# Altium footprint library COMPONENTES.PcbLib: 191 footprints (part 7 of 12)
Each footprint in its own frame and in the unit in brackets; x right, y up, seen from the top. Pads: shape width x height; smd on the part's side, far side on the other; paste and mask are expansions set on the pad; w line width, h text height; cw(c..) or ccw(c..) is an arc to the next point about the centre after c.
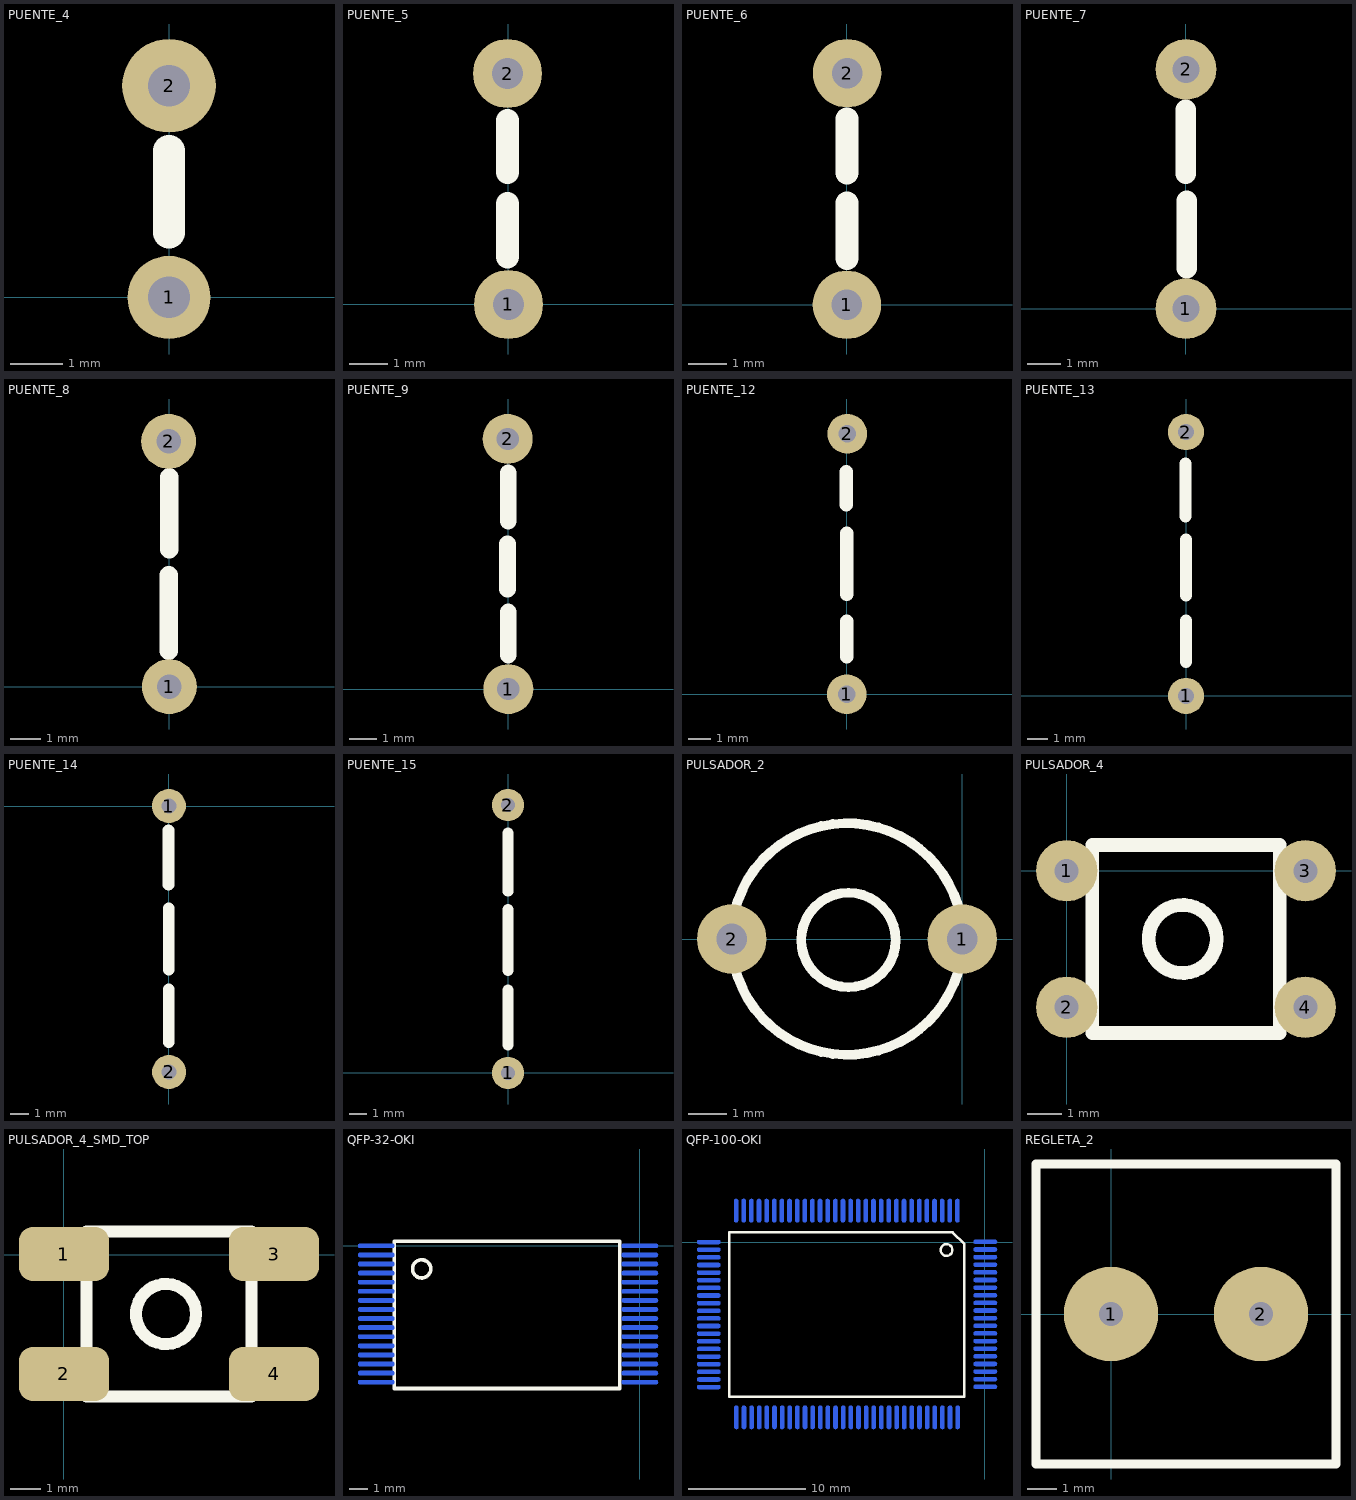
[diagram p6: the footprints below, top view; thin cyan lines are the x and y axes]

## PUENTE_4 [mm]
height 2.65
pads (2):
  round 1.6 hole 0.8: 1(0,0)
  round 1.8 hole 0.8: 2(0,4.075)
Top Overlay:
  lines w0.61: 0,1.25 0,2.825

## PUENTE_5 [mm]
height 2.65
pads (2):
  round 1.8 hole 0.8: 1(0,0) 2(-0.025,6.025)
Top Overlay:
  lines w0.61: -0.025,1.25 -0.025,2.625 ; -0.025,3.45 -0.025,4.8

## PUENTE_6 [mm]
height 2.65
pads (2):
  round 1.8 hole 0.8: 1(0,0) 2(0.004,6.093)
Top Overlay:
  lines w0.61: 0,1.225 0,2.675 ; 0,3.475 0,4.89

## PUENTE_7 [mm]
height 2.65
pads (2):
  round 1.8 hole 0.8: 1(0,0) 2(0.004,7.093)
Top Overlay:
  lines w0.61: 0,4 0,5.89 ; 0.025,1.197 0.025,3.2

## PUENTE_8 [mm]
height 2.65
pads (2):
  round 1.8 hole 0.8: 1(0,0) 2(-0.021,8.043)
Top Overlay:
  lines w0.61: -0.025,1.172 -0.025,3.65 ; 0,4.5 0,6.865

## PUENTE_9 [mm]
height 2.65
pads (2):
  round 1.8 hole 0.8: 1(0,0) 2(-0.021,9.018)
Top Overlay:
  lines w0.61: -0.025,3.6 -0.025,5.225 ; 0,1.225 0,2.775 ; 0,6.05 0,7.8

## PUENTE_12 [mm]
height 2.65
pads (2):
  round 1.8 hole 0.8: 1(0,0) 2(0.022,11.801)
Top Overlay:
  lines w0.61: -0.028,8.593 -0.028,10.092 ; -0.003,1.698 -0.003,3.298 ; -0.003,4.518 -0.003,5.901 -0.003,7.301

## PUENTE_13 [mm]
height 2.65
pads (2):
  round 1.8 hole 0.8: 1(0,0) 2(-0.003,13.126)
Top Overlay:
  lines w0.61: -0.028,8.943 -0.028,11.567 ; -0.003,1.698 -0.003,3.748 ; -0.003,4.993 -0.003,5.901 -0.003,7.776

## PUENTE_14 [mm]
height 2.65
pads (2):
  round 1.8 hole 0.8: 1(0,0) 2(0.003,-14.076)
Top Overlay:
  lines w0.61: -0.025,-4.158 -0.025,-1.285 ; 0,-12.503 0,-9.703 ; 0,-8.658 0,-8.175 0,-5.4

## PUENTE_15 [mm]
height 2.65
pads (2):
  round 1.8 hole 0.8: 1(0,0) 2(-0.003,15.026)
Top Overlay:
  lines w0.61: -0.003,1.573 -0.003,4.648 ; -0.003,5.743 -0.003,5.901 -0.003,9.176 ; -0.003,10.193 -0.003,13.467

## PULSADOR_2 [mm]
height 2.65
pads (2):
  round 1.8 hole 0.8: 1(0,0) 2(-5.975,0)
Top Overlay:
  circle w0.254: c-2.985,0 r3
  circle w0.254: c-2.95,-0.025 r1.225

## PULSADOR_4 [mm]
height 2.65
pads (4):
  round 1.8 hole 0.7: 1(0,0) 2(0,-4) 3(7,0) 4(7,-4)
Top Overlay:
  circle w0.4: c3.4,-2 r1
  lines w0.4: 0.75,-4.758 6.25,-4.758 6.25,0.758 0.75,0.758 0.75,-4.758

## PULSADOR_4_SMD_TOP [mm]
pads (4):
  rrect50% 3x1.8 smd: 1(0,0.025) 2(0,-3.975) 3(7,0.025) 4(7,-3.975)
Top Overlay:
  circle w0.4: c3.4,-1.975 r1
  lines w0.4: 0.75,-4.733 0.75,0.783 6.25,0.783 6.25,-4.733 0.75,-4.733

## QFP-32-OKI [mm]
height 2.65
pads (32):
  oval 2x0.24 smd far side: 1(0,0) 2(0,-0.5) 3(0,-1) 4(0,-1.5) 5(0,-2) 6(0,-2.5) 7(0,-3) 8(0,-3.5) 9(0,-4) 10(0,-4.5) 11(0,-5) 12(0,-5.5) 13(0,-6) 14(0,-6.5) 15(0,-7) 16(0,-7.5) 17(-14.5,-7.5) 18(-14.5,-7) 19(-14.5,-6.5) 20(-14.5,-6) 21(-14.5,-5.5) 22(-14.5,-5) 23(-14.5,-4.5) 24(-14.5,-4) 25(-14.5,-3.5) 26(-14.5,-3) 27(-14.5,-2.5) 28(-14.5,-2) 29(-14.5,-1.5) 30(-14.5,-1) 31(-14.5,-0.5) 32(-14.5,0)
Top Overlay:
  circle w0.2: c-12,-1.27 r0.5
  lines w0.2: -13.5,-7.85 -1.1,-7.85 -1.1,0.25 -13.5,0.25 -13.5,-7.85

## QFP-100-OKI [mm]
height 2.65
pads (100):
  oval 0.35x2 smd far side: 1(-2.343,2.676) 2(-2.993,2.676) 3(-3.643,2.676) 4(-4.293,2.676) 5(-4.943,2.676) 6(-5.593,2.676) 7(-6.243,2.676) 8(-6.893,2.676) 9(-7.543,2.676) 10(-8.193,2.676) 11(-8.843,2.676) 12.(-9.493,2.676) 13(-10.143,2.676) 14(-10.793,2.676) 15(-11.443,2.676) 16(-12.093,2.676) 17(-12.743,2.676) 18(-13.393,2.676) 19(-14.043,2.676) 20(-14.693,2.676) 21(-15.343,2.676) 22(-15.993,2.676) 23(-16.643,2.676) 24(-17.293,2.676) 25(-17.943,2.676) 26(-18.593,2.676) 27(-19.243,2.676) 28(-19.893,2.676) 29(-20.543,2.676) 30(-21.193,2.676) 51(-21.173,-14.924) 52(-20.523,-14.924) 53(-19.873,-14.924) 54(-19.223,-14.924) 55(-18.573,-14.924) 56(-17.923,-14.924) 57(-17.273,-14.924) 58(-16.623,-14.924) 59(-15.973,-14.924) 60(-15.323,-14.924) 61(-14.673,-14.924) 62(-14.023,-14.924) 63(-13.373,-14.924) 64(-12.723,-14.924) 65(-12.073,-14.924) 66(-11.423,-14.924) 67(-10.773,-14.924) 68(-10.123,-14.924) 69(-9.473,-14.924) 70(-8.823,-14.924) 71(-8.173,-14.924) 72(-7.523,-14.924) 73(-6.873,-14.924) 74(-6.223,-14.924) 75(-5.573,-14.924) 76(-4.923,-14.924) 77(-4.273,-14.924) 78(-3.623,-14.924) 79(-2.973,-14.924) 80(-2.323,-14.924)
  oval 2x0.35 smd far side: 31(-23.523,0.001) 32(-23.523,-0.649) 33(-23.523,-1.299) 34(-23.523,-1.949) 35(-23.523,-2.599) 36(-23.523,-3.249) 37(-23.523,-3.899) 38(-23.523,-4.549) 39(-23.523,-5.199) 40(-23.523,-5.849) 41(-23.523,-6.499) 42(-23.523,-7.149) 43(-23.523,-7.799) 44(-23.523,-8.449) 45(-23.523,-9.099) 46(-23.523,-9.749) 47(-23.523,-10.399) 48(-23.523,-11.049) 49(-23.523,-11.699) 50(-23.523,-12.349) 81(0.027,-12.329) 82(0.027,-11.679) 83(0.027,-11.029) 84(0.027,-10.379) 85(0.027,-9.729) 86(0.027,-9.079) 87(0.027,-8.429) 88(0.027,-7.779) 89(0.027,-7.129) 90(0.027,-6.479) 91(0.027,-5.829) 92(0.027,-5.179) 93(0.027,-4.529) 94(0.027,-3.879) 95(0.027,-3.229) 96(0.027,-2.579) 97(0.027,-1.929) 98(0.027,-1.279) 99(0.027,-0.629) 100(0.027,0.021)
Top Overlay:
  circle w0.2: c-3.273,-0.674 r0.5
  lines w0.2: -21.773,-13.174 -21.773,0.826 -2.753,0.826 -1.753,-0.174 -1.773,-13.174 -21.773,-13.174

## REGLETA_2 [mm]
height 2.65
pads (2):
  round 3.2 hole 0.8: 1(0,0) 2(5.08,0)
Top Overlay:
  lines w0.305: -2.54,-5.08 7.62,-5.08 7.62,5.08 -2.54,5.08 -2.54,-5.08